# Altium footprint library PCB - MISC - DESIGN_INFO.PCBLIB: 2 footprints
Each footprint in its own frame and in the unit in brackets; x right, y up, seen from the top. Pads: shape width x height; smd on the part's side, far side on the other; paste and mask are expansions set on the pad; w line width, h text height; cw(c..) or ccw(c..) is an arc to the next point about the centre after c.

## Design_info [mm] "Design information about the PCB"
Top Overlay:
  text ".Project / .ProjectRevision / .AuthorParam / .ProjectDate" at 0,0 h2
Top Assembly:
  text ".Project / .ProjectRevision / .AuthorParam / .ProjectDate" at 0,0 h2

## Design_info2 [mm] "project name + revision number"
Top Overlay:
  text ".Project  Rev.ProjectRevision / .AuthorParam  .ProjectDate" at 0,0 h2
Top Assembly:
  text ".Project  Rev.ProjectRevision / .AuthorParam  .ProjectDate" at 0,0 h2